# Altium footprint library SOP80P1184X119-44N.PcbLib: 1 footprints
Each footprint in its own frame and in the unit in brackets; x right, y up, seen from the top. Pads: shape width x height; smd on the part's side, far side on the other; paste and mask are expansions set on the pad; w line width, h text height; cw(c..) or ccw(c..) is an arc to the next point about the centre after c.
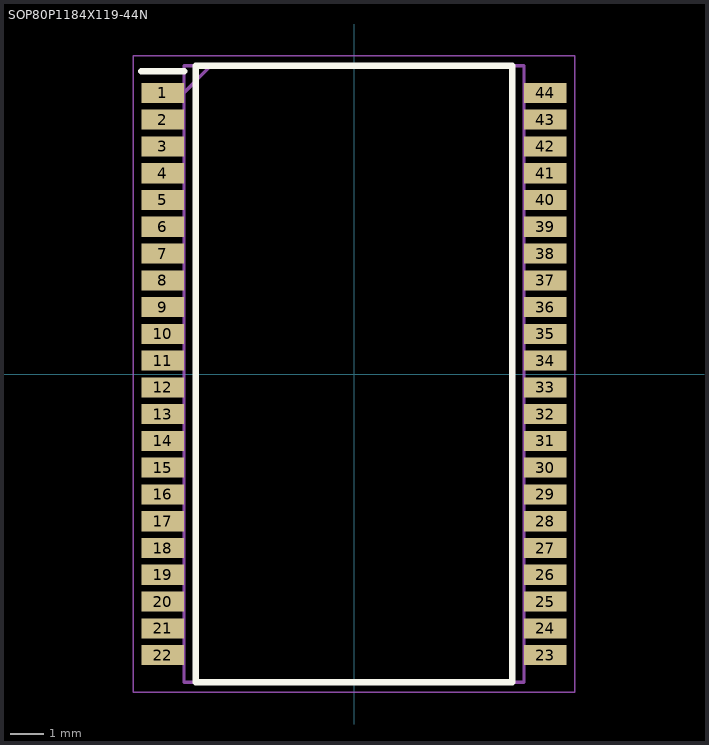
[diagram p0: the footprint, top view; thin cyan lines are the x and y axes]

## SOP80P1184X119-44N [mm]
pads (44):
  rect 1.27x0.6 smd: 1(-5.715,8.4) 2(-5.715,7.6) 3(-5.715,6.8) 4(-5.715,6) 5(-5.715,5.2) 6(-5.715,4.4) 7(-5.715,3.6) 8(-5.715,2.8) 9(-5.715,2) 10(-5.715,1.2) 11(-5.715,0.4) 12(-5.715,-0.4) 13(-5.715,-1.2) 14(-5.715,-2) 15(-5.715,-2.8) 16(-5.715,-3.6) 17(-5.715,-4.4) 18(-5.715,-5.2) 19(-5.715,-6) 20(-5.715,-6.8) 21(-5.715,-7.6) 22(-5.715,-8.4) 23(5.715,-8.4) 24(5.715,-7.6) 25(5.715,-6.8) 26(5.715,-6) 27(5.715,-5.2) 28(5.715,-4.4) 29(5.715,-3.6) 30(5.715,-2.8) 31(5.715,-2) 32(5.715,-1.2) 33(5.715,-0.4) 34(5.715,0.4) 35(5.715,1.2) 36(5.715,2) 37(5.715,2.8) 38(5.715,3.6) 39(5.715,4.4) 40(5.715,5.2) 41(5.715,6) 42(5.715,6.8) 43(5.715,7.6) 44(5.715,8.4)
Top Overlay:
  lines w0.2: -6.35,9.05 -5.08,9.05 ; -4.73,-9.208 4.73,-9.208 4.73,9.208 -4.73,9.208 -4.73,-9.208
Mechanical 15:
  lines w0.1: -5.08,8.408 -4.28,9.208 ; -5.08,-9.208 5.08,-9.208 5.08,9.208 -5.08,9.208 -5.08,-9.208
Mechanical 20:
  lines w0.05: -6.6,-9.508 6.6,-9.508 6.6,9.508 -6.6,9.508 -6.6,-9.508